# Altium footprint library Switch.PcbLib: 1 footprints
Each footprint in its own frame and in the unit in brackets; x right, y up, seen from the top. Pads: shape width x height; smd on the part's side, far side on the other; paste and mask are expansions set on the pad; w line width, h text height; cw(c..) or ccw(c..) is an arc to the next point about the centre after c.
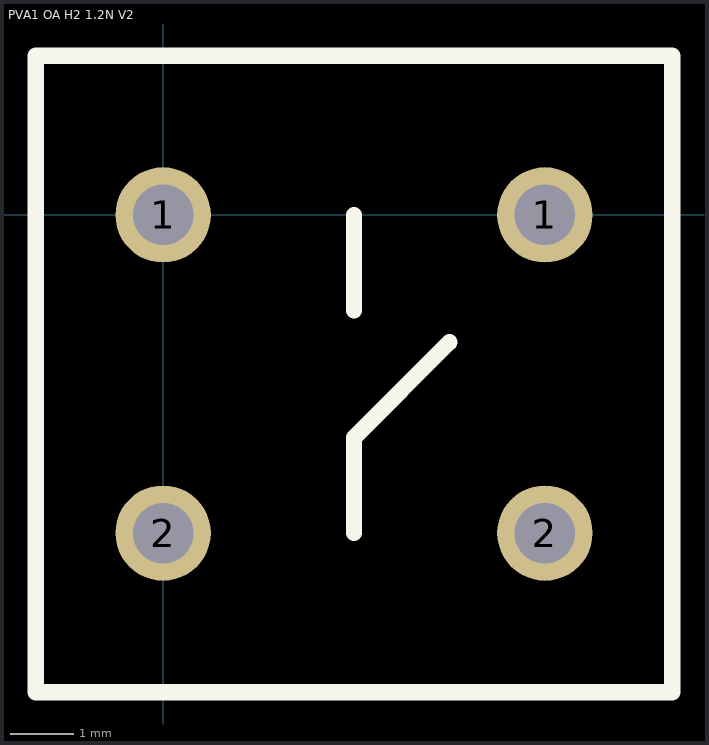
[diagram p0: the footprint, top view; thin cyan lines are the x and y axes]

## PVA1 OA H2 1.2N V2 [mm] "SWITCH PUSH DPST-NO 0.1A 32V"
pads (4):
  round 1.5 hole 0.95: 1(0,0) 1(6,0) 2(0,-5) 2(6,-5)
Top Overlay:
  lines w0.254: 3,-5 3,-4 3,-3.5 4.5,-2 ; 3,-1.5 3,0 ; -2,-7.5 -2,2.5 0,2.5 8,2.5 8,-7.5 -2,-7.5